# EAGLE library part SAM9708 (library atmel)
128-voice Integrated Sound Synthesizer
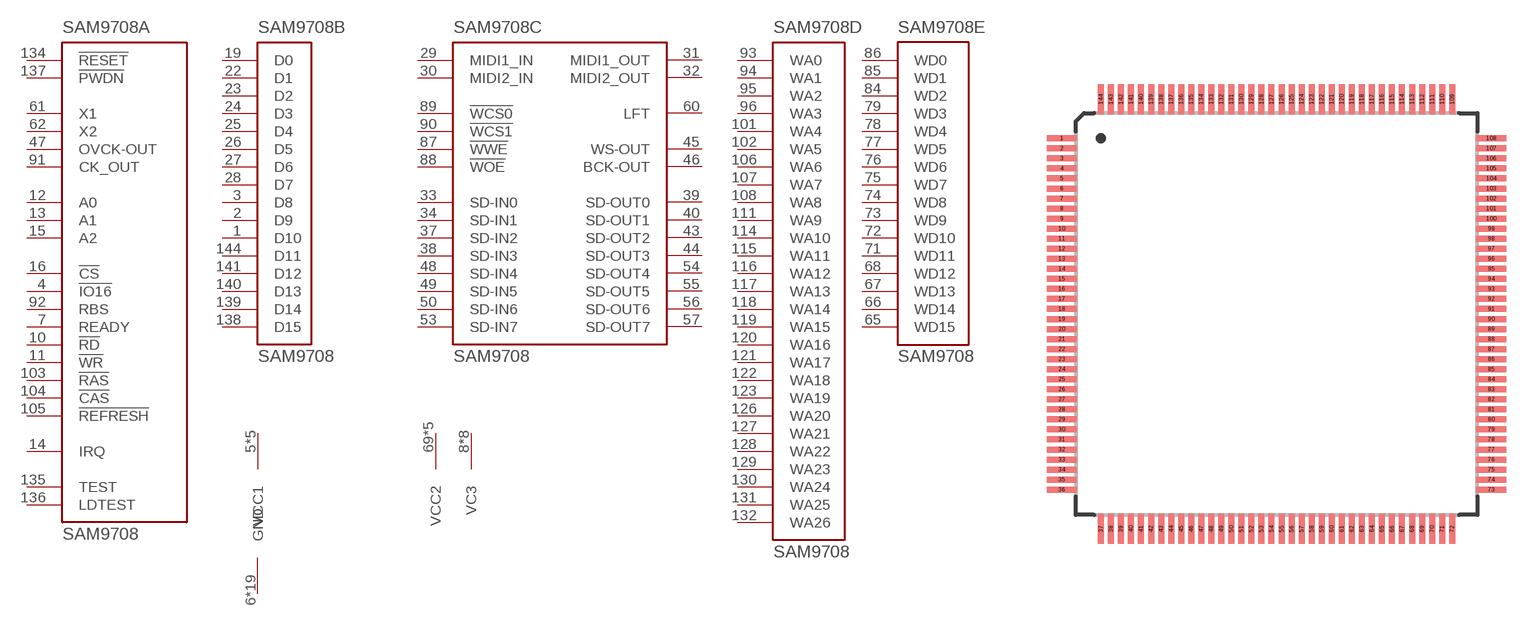
[diagram p99: symbol with the pads of QFP144_20X20_0.50; footprint QFP144_20X20_0.50]

Designator prefix SAM9708; gates A=SAM9708 C=SAM9708-SND B=D0-15 D=WA27 E=WD15 G=GND V1=VCC1 V2=VCC2 V3=VC3

## SAM9708  [QFP144_20X20_0.50]
1  B:D10  hiz
2  B:D9  hiz
3  B:D8  hiz
4  A:!IO16  hiz
5  V1:VCC1  pwr
6  G:GND  pwr
7  A:READY  hiz
8  V3:VC3  pwr
9  G:GND  pwr
10  A:!RD  in
11  A:!WR  in
12  A:A0  in
13  A:A1  in
14  A:IRQ  hiz
15  A:A2  in
16  A:!CS  in
17  V3:VC3  pwr
18  G:GND  pwr
19  B:D0  hiz
20  V1:VCC1  pwr
21  G:GND  pwr
22  B:D1  hiz
23  B:D2  hiz
24  B:D3  hiz
25  B:D4  hiz
26  B:D5  hiz
27  B:D6  hiz
28  B:D7  hiz
29  C:MIDI1_IN  in
30  C:MIDI2_IN  in
31  C:MIDI1_OUT  in
32  C:MIDI2_OUT  in
33  C:SD-IN0
34  C:SD-IN1
35  V1:VCC1  pwr
36  G:GND  pwr
37  C:SD-IN2
38  C:SD-IN3
39  C:SD-OUT0  out
40  C:SD-OUT1  out
41  V3:VC3  pwr
42  G:GND  pwr
43  C:SD-OUT2  out
44  C:SD-OUT3  out
45  C:WS-OUT  out
46  C:BCK-OUT  out
47  A:OVCK-OUT  out
48  C:SD-IN4
49  C:SD-IN5
50  C:SD-IN6
51  G:GND  pwr
52  V1:VCC1  pwr
53  C:SD-IN7
54  C:SD-OUT4  out
55  C:SD-OUT5  out
56  C:SD-OUT6  out
57  C:SD-OUT7  out
58  V3:VC3  pwr
59  G:GND  pwr
60  C:LFT  pas
61  A:X1  out
62  A:X2  in
63  V3:VC3  pwr
64  G:GND  pwr
65  E:WD15
66  E:WD14
67  E:WD13
68  E:WD12
69  V2:VCC2  pwr
70  G:GND  pwr
71  E:WD11
72  E:WD10
73  E:WD9
74  E:WD8
75  E:WD7
76  E:WD6
77  E:WD5
78  E:WD4
79  E:WD3
80  V3:VC3  pwr
81  V2:VCC2  pwr
82  G:GND  pwr
83  G:GND  pwr
84  E:WD2
85  E:WD1
86  E:WD0
87  C:!WWE  out
88  C:!WOE  out
89  C:!WCS0  out
90  C:!WCS1  out
91  A:CK_OUT  out
92  A:RBS  out
93  D:WA0  out
94  D:WA1  out
95  D:WA2  out
96  D:WA3  out
97  V2:VCC2  pwr
98  G:GND  pwr
99  V3:VC3  pwr
100  G:GND  pwr
101  D:WA4  out
102  D:WA5  out
103  A:!RAS
104  A:!CAS
105  A:!REFRESH
106  D:WA6  out
107  D:WA7  out
108  D:WA8  out
109  V2:VCC2  pwr
110  G:GND  pwr
111  D:WA9  out
112  V3:VC3  pwr
113  G:GND  pwr
114  D:WA10  out
115  D:WA11  out
116  D:WA12  out
117  D:WA13  out
118  D:WA14  out
119  D:WA15  out
120  D:WA16  out
121  D:WA17  out
122  D:WA18  out
123  D:WA19  out
124  V2:VCC2  pwr
125  G:GND  pwr
126  D:WA20  out
127  D:WA21  out
128  D:WA22  out
129  D:WA23  out
130  D:WA24  out
131  D:WA25  out
132  D:WA26  out
133  G:GND  pwr
134  A:!RESET  in
135  A:TEST  in
136  A:LDTEST  in
137  A:!PWDN  in
138  B:D15  hiz
139  B:D14  hiz
140  B:D13  hiz
141  B:D12  hiz
142  V1:VCC1  pwr
143  G:GND  pwr
144  B:D11  hiz

## Footprint QFP144_20X20_0.50 (pad centres in mm)
Thin Plasic Quad Flat Package, 20mm x 20mm body, 0.50mm lead pitch JEDEC: ATMEL Code:
smd 1.5 x 0.3: 1 -10.7,8.75; 2 -10.7,8.25; 3 -10.7,7.75; 4 -10.7,7.25; 5 -10.7,6.75; 6 -10.7,6.25; 7 -10.7,5.75; 8 -10.7,5.25; 9 -10.7,4.75; 10 -10.7,4.25; 11 -10.7,3.75; 12 -10.7,3.25; 13 -10.7,2.75; 14 -10.7,2.25; 15 -10.7,1.75; 16 -10.7,1.25; 17 -10.7,0.75; 18 -10.7,0.25; 19 -10.7,-0.25; 20 -10.7,-0.75; 21 -10.7,-1.25; 22 -10.7,-1.75; 23 -10.7,-2.25; 24 -10.7,-2.75; 25 -10.7,-3.25; 26 -10.7,-3.75; 27 -10.7,-4.25; 28 -10.7,-4.75; 29 -10.7,-5.25; 30 -10.7,-5.75; 31 -10.7,-6.25; 32 -10.7,-6.75; 33 -10.7,-7.25; 34 -10.7,-7.75; 35 -10.7,-8.25; 36 -10.7,-8.75; 73 10.7,-8.75; 74 10.7,-8.25; 75 10.7,-7.75; 76 10.7,-7.25; 77 10.7,-6.75; 78 10.7,-6.25; 79 10.7,-5.75; 80 10.7,-5.25; 81 10.7,-4.75; 82 10.7,-4.25; 83 10.7,-3.75; 84 10.7,-3.25; 85 10.7,-2.75; 86 10.7,-2.25; 87 10.7,-1.75; 88 10.7,-1.25; 89 10.7,-0.75; 90 10.7,-0.25; 91 10.7,0.25; 92 10.7,0.75; 93 10.7,1.25; 94 10.7,1.75; 95 10.7,2.25; 96 10.7,2.75; 97 10.7,3.25; 98 10.7,3.75; 99 10.7,4.25; 100 10.7,4.75; 101 10.7,5.25; 102 10.7,5.75; 103 10.7,6.25; 104 10.7,6.75; 105 10.7,7.25; 106 10.7,7.75; 107 10.7,8.25; 108 10.7,8.75
smd 0.3 x 1.5: 37 -8.75,-10.7; 38 -8.25,-10.7; 39 -7.75,-10.7; 40 -7.25,-10.7; 41 -6.75,-10.7; 42 -6.25,-10.7; 43 -5.75,-10.7; 44 -5.25,-10.7; 45 -4.75,-10.7; 46 -4.25,-10.7; 47 -3.75,-10.7; 48 -3.25,-10.7; 49 -2.75,-10.7; 50 -2.25,-10.7; 51 -1.75,-10.7; 52 -1.25,-10.7; 53 -0.75,-10.7; 54 -0.25,-10.7; 55 0.25,-10.7; 56 0.75,-10.7; 57 1.25,-10.7; 58 1.75,-10.7; 59 2.25,-10.7; 60 2.75,-10.7; 61 3.25,-10.7; 62 3.75,-10.7; 63 4.25,-10.7; 64 4.75,-10.7; 65 5.25,-10.7; 66 5.75,-10.7; 67 6.25,-10.7; 68 6.75,-10.7; 69 7.25,-10.7; 70 7.75,-10.7; 71 8.25,-10.7; 72 8.75,-10.7; 109 8.75,10.7; 110 8.25,10.7; 111 7.75,10.7; 112 7.25,10.7; 113 6.75,10.7; 114 6.25,10.7; 115 5.75,10.7; 116 5.25,10.7; 117 4.75,10.7; 118 4.25,10.7; 119 3.75,10.7; 120 3.25,10.7; 121 2.75,10.7; 122 2.25,10.7; 123 1.75,10.7; 124 1.25,10.7; 125 0.75,10.7; 126 0.25,10.7; 127 -0.25,10.7; 128 -0.75,10.7; 129 -1.25,10.7; 130 -1.75,10.7; 131 -2.25,10.7; 132 -2.75,10.7; 133 -3.25,10.7; 134 -3.75,10.7; 135 -4.25,10.7; 136 -4.75,10.7; 137 -5.25,10.7; 138 -5.75,10.7; 139 -6.25,10.7; 140 -6.75,10.7; 141 -7.25,10.7; 142 -7.75,10.7; 143 -8.25,10.7; 144 -8.75,10.7